# Altium footprint library Pinheader_2.54_2x10.PcbLib: 1 footprints
Each footprint in its own frame and in the unit in brackets; x right, y up, seen from the top. Pads: shape width x height; smd on the part's side, far side on the other; paste and mask are expansions set on the pad; w line width, h text height; cw(c..) or ccw(c..) is an arc to the next point about the centre after c.
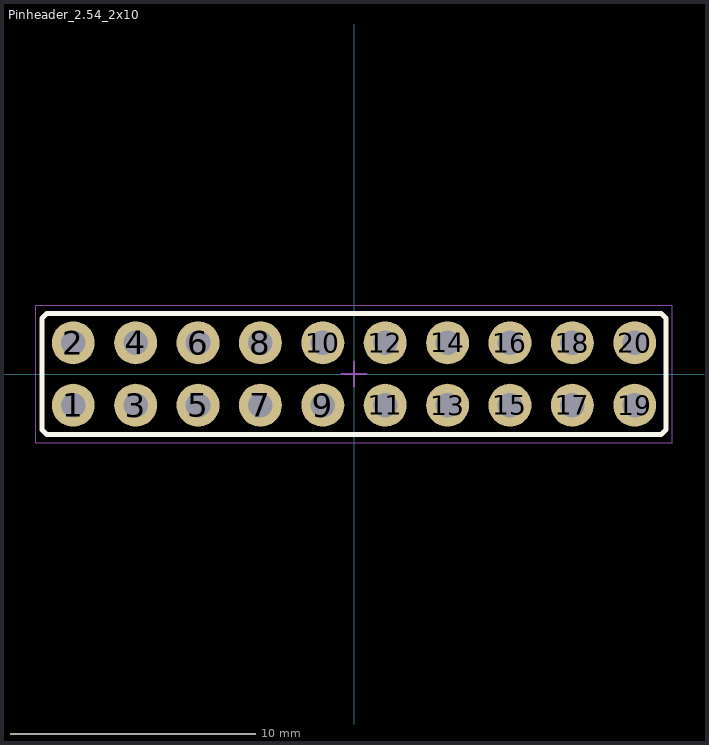
[diagram p0: the footprint, top view; thin cyan lines are the x and y axes]

## Pinheader_2.54_2x10 [mm] "Pinheader, 2.54mm, gerade, 2-reihig"
height 8.7
pads (20):
  round 1.75 hole 1: 1(-11.43,-1.27) 2(-11.43,1.27) 3(-8.89,-1.27) 4(-8.89,1.27) 5(-6.35,-1.27) 6(-6.35,1.27) 7(-3.81,-1.27) 8(-3.81,1.27) 9(-1.27,-1.27) 10(-1.27,1.27) 11(1.27,-1.27) 12(1.27,1.27) 13(3.81,-1.27) 14(3.81,1.27) 15(6.35,-1.27) 16(6.35,1.27) 17(8.89,-1.27) 18(8.89,1.27) 19(11.43,-1.27) 20(11.43,1.27)
Top Overlay:
  lines w0.2: -12.7,-2.27 -12.5,-2.47 -9.89,-2.47 9.89,-2.47 12.5,-2.47 12.7,-2.27 12.7,2.27 12.5,2.47 9.89,2.47 -9.89,2.47 -12.5,2.47 -12.7,2.27 -12.7,-2.27
Mechanical 13:
  lines w0.1: -12.7,-2.27 -12.5,-2.47 -9.89,-2.47 9.89,-2.47 12.5,-2.47 12.7,-2.27 12.7,2.27 12.5,2.47 9.89,2.47 -9.89,2.47 -12.5,2.47 -12.7,2.27 -12.7,-2.27
Mechanical 15:
  lines w0.05: -12.954,-2.8 12.954,-2.8 12.954,2.8 -12.954,2.8 -12.954,-2.8
  lines w0.1: -0.5,0 0.5,0 ; 0,-0.5 0,0.5
3D body "stiftleiste_254_gerade_2.stp": height 8.74, standoff -2.86, extent -12.7,-2.54 -10.16,2.54
3D body "stiftleiste_254_gerade_2.stp": height 8.74, standoff -2.86, extent 10.16,-2.54 12.7,2.54
3D body "stiftleiste_254_gerade_2x8.stp": height 8.74, standoff -2.86, extent -10.16,-2.54 10.16,2.54